# Altium integrated library BB Converter Voltage to Current.IntLib: 9 symbols
Pins are listed as number, name and electrical type; pins without a type are passive.

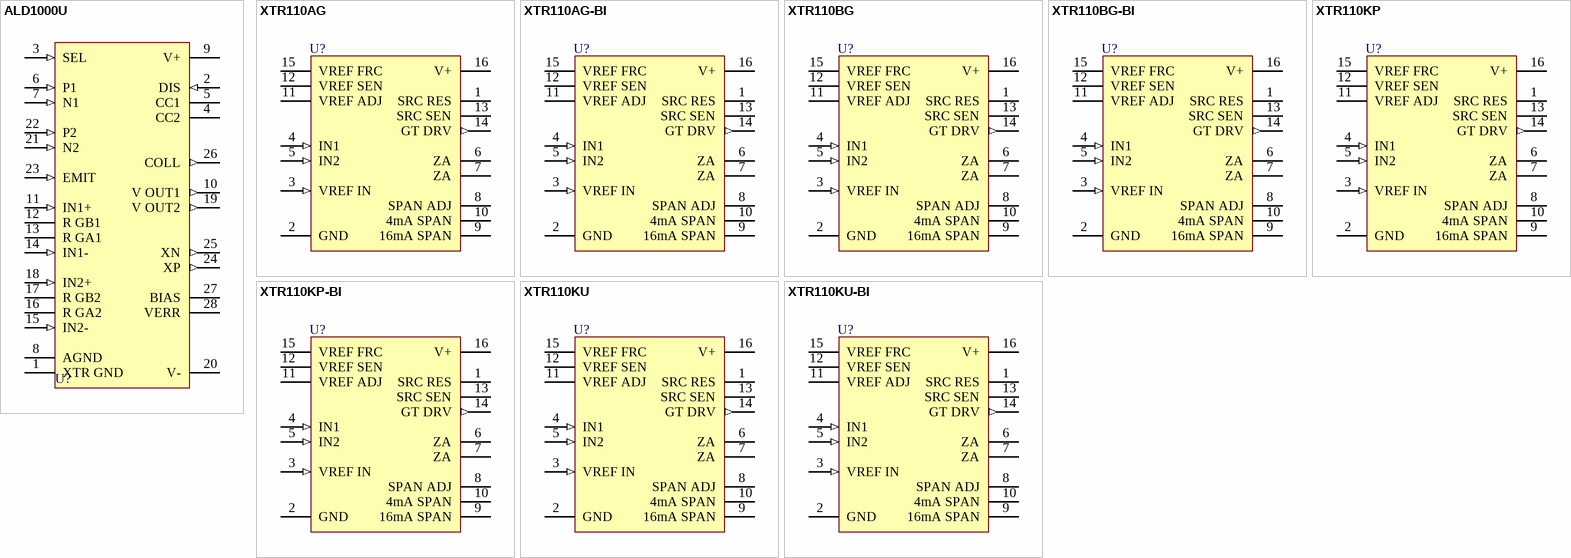
[diagram p0: symbols ALD1000U to XTR110KU-BI]

## ALD1000U
designator U?
Precision Programmable Current/Voltage Transmitter; Published: 8-Jun-2000; LatestRevisionDate: 13-Apr-2006; LatestRevisionNote: IPC-7351 Footprint Added.; DatasheetVersion: 1996~1997; PackageReference: 217G; Publisher: Altium Limited; PackageDescription: 28-Pin Small Outline Integrated Circuit 1.27 mm Pitch; ComponentLink1Description: Manufacturer Link; ComponentLink1URL: http://www.ti.com/
footprint 217G_N (SOIC, 28-Leads, Body 17.9x7.5mm, Pitch 1.27mm, IPC Medium Density)
footprint 217G_L (SOIC, 28-Leads, Body 17.9x7.5mm, Pitch 1.27mm, IPC High Density)
footprint 217G_M (SOIC, 28-Leads, Body 17.9x7.5mm, Pitch 1.27mm, IPC Low Density)
3D model 217G (28-Pin Small Outline Integrated Circuit 1.27 mm Pitch)
pins: 1 XTR GND (power), 2 DIS (in), 3 SEL (in), 4 CC2, 5 CC1, 6 P1 (in), 7 N1 (in), 8 AGND (power), 9 V+ (power), 10 V OUT1 (out), 11 IN1+ (in), 12 R GB1, 13 R GA1, 14 IN1- (in), 15 IN2- (in), 16 R GA2, 17 R GB2, 18 IN2+ (in), 19 V OUT2 (out), 20 V- (power), 21 N2 (in), 22 P2 (in), 23 EMIT (in), 24 XP (out), 25 XN (out), 26 COLL (out), 27 BIAS (oc), 28 VERR (oc)

## XTR110AG
designator U?
Precision Voltage-to-Current Converter/Transmitter; Published: 8-Jun-2000; LatestRevisionDate: 06-Jun-2005; LatestRevisionNote: Stylized 3D Model Added.; DatasheetVersion: Sep-1993; PackageVersion: revD; PackageReference: 109D; Publisher: Altium Limited; PackageDescription: DIP; 16 Leads; Row Spacing 7.62 mm; Pitch 2.54 mm; ComponentLink1Description: Manufacturer Link; ComponentLink1URL: http://www.ti.com/; ComponentLink2Description: Datasheet; ComponentLink2URL: http://www-s.ti.com/sc/ds/XTR110.pdf
footprint 109D (DIP; 16 Leads; Row Spacing 7.62 mm; Pitch 2.54 mm)
3D model ZZ180 (DIP; 16 Leads; Row Spacing 7.62 mm; Pitch 2.54 mm)
pins: 1 SRC RES, 2 GND (power), 3 VREF IN (in), 4 IN1 (in), 5 IN2 (in), 6 ZA, 7 ZA, 8 SPAN ADJ, 9 16mA SPAN, 10 4mA SPAN, 11 VREF ADJ, 12 VREF SEN, 13 SRC SEN, 14 GT DRV (out), 15 VREF FRC, 16 V+ (power)

## XTR110AG-BI
designator U?
Precision Voltage-to-Current Converter/Transmitter; Published: 8-Jun-2000; LatestRevisionDate: 06-Jun-2005; LatestRevisionNote: Stylized 3D Model Added.; DatasheetVersion: 1989; PackageReference: C16DIP; Publisher: Altium Limited; PackageDescription: DIP; 16 Leads; Row Spacing 7.62 mm; Pitch 2.54 mm; ComponentLink1Description: Manufacturer Link; ComponentLink1URL: http://www.ti.com/; ComponentLink2Description: Datasheet; ComponentLink2URL: http://www-s.ti.com/sc/ds/xtr110.pdf
footprint C16DIP (DIP; 16 Leads; Row Spacing 7.62 mm; Pitch 2.54 mm)
3D model C16DIP (DIP; 16 Leads; Row Spacing 7.62 mm; Pitch 2.54 mm)
pins: 1 SRC RES, 2 GND (power), 3 VREF IN (in), 4 IN1 (in), 5 IN2 (in), 6 ZA, 7 ZA, 8 SPAN ADJ, 9 16mA SPAN, 10 4mA SPAN, 11 VREF ADJ, 12 VREF SEN, 13 SRC SEN, 14 GT DRV (out), 15 VREF FRC, 16 V+ (power)

## XTR110BG
designator U?
Precision Voltage-to-Current Converter/Transmitter; Published: 8-Jun-2000; LatestRevisionDate: 06-Jun-2005; LatestRevisionNote: Stylized 3D Model Added.; DatasheetVersion: Sep-1993; PackageVersion: revD; PackageReference: 109D; Publisher: Altium Limited; PackageDescription: DIP; 16 Leads; Row Spacing 7.62 mm; Pitch 2.54 mm; ComponentLink1Description: Manufacturer Link; ComponentLink1URL: http://www.ti.com/; ComponentLink2Description: Datasheet; ComponentLink2URL: http://www-s.ti.com/sc/ds/XTR110.pdf
footprint 109D (DIP; 16 Leads; Row Spacing 7.62 mm; Pitch 2.54 mm)
3D model ZZ180 (DIP; 16 Leads; Row Spacing 7.62 mm; Pitch 2.54 mm)
pins: 1 SRC RES, 2 GND (power), 3 VREF IN (in), 4 IN1 (in), 5 IN2 (in), 6 ZA, 7 ZA, 8 SPAN ADJ, 9 16mA SPAN, 10 4mA SPAN, 11 VREF ADJ, 12 VREF SEN, 13 SRC SEN, 14 GT DRV (out), 15 VREF FRC, 16 V+ (power)

## XTR110BG-BI
designator U?
Precision Voltage-to-Current Converter/Transmitter; Published: 8-Jun-2000; LatestRevisionDate: 06-Jun-2005; LatestRevisionNote: Stylized 3D Model Added.; DatasheetVersion: 1989; PackageReference: C16DIP; Publisher: Altium Limited; PackageDescription: DIP; 16 Leads; Row Spacing 7.62 mm; Pitch 2.54 mm; ComponentLink1Description: Manufacturer Link; ComponentLink1URL: http://www.ti.com/; ComponentLink2Description: Datasheet; ComponentLink2URL: http://www-s.ti.com/sc/ds/xtr110.pdf
footprint C16DIP (DIP; 16 Leads; Row Spacing 7.62 mm; Pitch 2.54 mm)
3D model C16DIP (DIP; 16 Leads; Row Spacing 7.62 mm; Pitch 2.54 mm)
pins: 1 SRC RES, 2 GND (power), 3 VREF IN (in), 4 IN1 (in), 5 IN2 (in), 6 ZA, 7 ZA, 8 SPAN ADJ, 9 16mA SPAN, 10 4mA SPAN, 11 VREF ADJ, 12 VREF SEN, 13 SRC SEN, 14 GT DRV (out), 15 VREF FRC, 16 V+ (power)

## XTR110KP
designator U?
Precision Voltage-to-Current Converter/Transmitter; Published: 8-Jun-2000; LatestRevisionDate: 06-Jun-2005; LatestRevisionNote: Stylized 3D Model Added.; DatasheetVersion: Sep-1993; PackageVersion: revF; PackageReference: ZZ180; Publisher: Altium Limited; PackageDescription: DIP, Plastic; 16 Leads; Row Spacing 7.62 mm; Pitch 2.54 mm; Code_JEDEC: MS-001-BB; ComponentLink1Description: Manufacturer Link; ComponentLink1URL: http://www.ti.com/; ComponentLink2Description: Datasheet; ComponentLink2URL: http://www-s.ti.com/sc/ds/XTR110.pdf
footprint ZZ180 (DIP, Plastic; 16 Leads; Row Spacing 7.62 mm; Pitch 2.54 mm)
3D model ZZ180 (DIP, Plastic; 16 Leads; Row Spacing 7.62 mm; Pitch 2.54 mm)
pins: 1 SRC RES, 2 GND (power), 3 VREF IN (in), 4 IN1 (in), 5 IN2 (in), 6 ZA, 7 ZA, 8 SPAN ADJ, 9 16mA SPAN, 10 4mA SPAN, 11 VREF ADJ, 12 VREF SEN, 13 SRC SEN, 14 GT DRV (out), 15 VREF FRC, 16 V+ (power)

## XTR110KP-BI
designator U?
Precision Voltage-to-Current Converter/Transmitter; Published: 8-Jun-2000; LatestRevisionDate: 06-Jun-2005; LatestRevisionNote: Stylized 3D Model Added.; DatasheetVersion: 1989; PackageVersion: revF; PackageReference: ZZ180; Publisher: Altium Limited; PackageDescription: DIP, Plastic; 16 Leads; Row Spacing 7.62 mm; Pitch 2.54 mm; Code_JEDEC: MS-001-BB; ComponentLink1Description: Manufacturer Link; ComponentLink1URL: http://www.ti.com/; ComponentLink2Description: Datasheet; ComponentLink2URL: http://www-s.ti.com/sc/ds/xtr110.pdf
footprint ZZ180 (DIP, Plastic; 16 Leads; Row Spacing 7.62 mm; Pitch 2.54 mm)
3D model ZZ180 (DIP, Plastic; 16 Leads; Row Spacing 7.62 mm; Pitch 2.54 mm)
pins: 1 SRC RES, 2 GND (power), 3 VREF IN (in), 4 IN1 (in), 5 IN2 (in), 6 ZA, 7 ZA, 8 SPAN ADJ, 9 16mA SPAN, 10 4mA SPAN, 11 VREF ADJ, 12 VREF SEN, 13 SRC SEN, 14 GT DRV (out), 15 VREF FRC, 16 V+ (power)

## XTR110KU
designator U?
Precision Voltage-to-Current Converter/Transmitter; Published: 8-Jun-2000; LatestRevisionDate: 13-Apr-2006; LatestRevisionNote: IPC-7351 Footprint Added.; DatasheetVersion: Sep-1993; PackageReference: 211F; Publisher: Altium Limited; PackageDescription: 16-Pin Small Outline Integrated Circuit 1.27 mm Pitch; Code_JEDEC: MS-013-AA; Code_IPC: SOIC127P1030-16; ComponentLink1Description: Manufacturer Link; ComponentLink1URL: http://www.ti.com/; ComponentLink2Description: Datasheet; ComponentLink2URL: http://www-s.ti.com/sc/ds/XTR110.pdf
footprint 211F_N (SOIC, 16-Leads, Body 10.3x7.5mm, Pitch 1.27mm, IPC Medium Density)
footprint 211F_L (SOIC, 16-Leads, Body 10.3x7.5mm, Pitch 1.27mm, IPC High Density)
footprint 211F_M (SOIC, 16-Leads, Body 10.3x7.5mm, Pitch 1.27mm, IPC Low Density)
3D model SOIC16 (16-Pin Small Outline Integrated Circuit 1.27 mm Pitch)
pins: 1 SRC RES, 2 GND (power), 3 VREF IN (in), 4 IN1 (in), 5 IN2 (in), 6 ZA, 7 ZA, 8 SPAN ADJ, 9 16mA SPAN, 10 4mA SPAN, 11 VREF ADJ, 12 VREF SEN, 13 SRC SEN, 14 GT DRV (out), 15 VREF FRC, 16 V+ (power)

## XTR110KU-BI
designator U?
Precision Voltage-to-Current Converter/Transmitter; Published: 8-Jun-2000; LatestRevisionDate: 13-Apr-2006; LatestRevisionNote: IPC-7351 Footprint Added.; DatasheetVersion: 1989; PackageReference: SOIC16; Publisher: Altium Limited; PackageDescription: 16-Pin Small Outline Integrated Circuit 1.27 mm Pitch; Code_JEDEC: MS-013-AA; Code_IPC: SOIC127P1030-16; ComponentLink1Description: Manufacturer Link; ComponentLink1URL: http://www.ti.com/; ComponentLink2Description: Datasheet; ComponentLink2URL: http://www-s.ti.com/sc/ds/xtr110.pdf
footprint SOIC16_N (SOIC, 16-Leads, Body 10.4x7.5mm, Pitch 1.27mm, IPC Medium Density)
footprint SOIC16_L (SOIC, 16-Leads, Body 10.4x7.5mm, Pitch 1.27mm, IPC High Density)
footprint SOIC16_M (SOIC, 16-Leads, Body 10.4x7.5mm, Pitch 1.27mm, IPC Low Density)
3D model SOIC16 (16-Pin Small Outline Integrated Circuit 1.27 mm Pitch)
pins: 1 SRC RES, 2 GND (power), 3 VREF IN (in), 4 IN1 (in), 5 IN2 (in), 6 ZA, 7 ZA, 8 SPAN ADJ, 9 16mA SPAN, 10 4mA SPAN, 11 VREF ADJ, 12 VREF SEN, 13 SRC SEN, 14 GT DRV (out), 15 VREF FRC, 16 V+ (power)